# Altium footprint library Components - 10.12.25 - 15.07.PcbLib: 4 footprints
Each footprint in its own frame and in the unit in brackets; x right, y up, seen from the top. Pads: shape width x height; smd on the part's side, far side on the other; paste and mask are expansions set on the pad; w line width, h text height; cw(c..) or ccw(c..) is an arc to the next point about the centre after c.
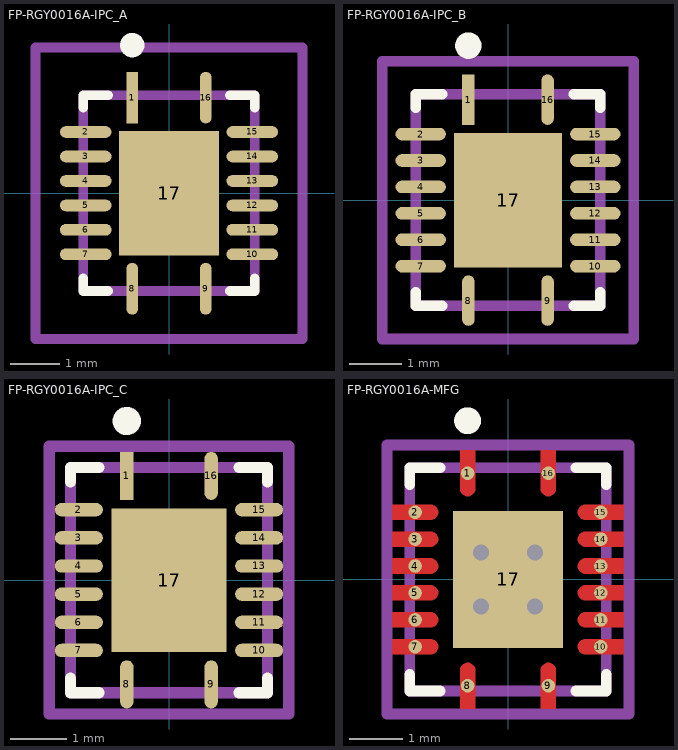
[diagram p0: the footprints below, top view; thin cyan lines are the x and y axes]

## FP-RGY0016A-IPC_A [mm]
pads (17):
  rect 0.239x1.054 smd paste+0 mask+0: 1(-0.75,1.952)
  rrect100% 1.054x0.239 smd paste+0 mask+0: 2(-1.702,1.25) 3(-1.702,0.75) 4(-1.702,0.25) 5(-1.702,-0.25) 6(-1.702,-0.75) 7(-1.702,-1.25) 10(1.702,-1.25) 11(1.702,-0.75) 12(1.702,-0.25) 13(1.702,0.25) 14(1.702,0.75) 15(1.702,1.25)
  rrect100% 0.239x1.054 smd paste+0 mask+0: 8(-0.75,-1.952) 9(0.75,-1.952) 16(0.75,1.952)
  rect 2.05x2.55 smd paste-1000 mask+0: 17(0,0)
Top Overlay:
  circle w0.25: c-0.75,3.025 r0.125
  lines w0.2: -1.75,-1.745 -1.75,-2 -1.245,-2 ; -1.75,1.745 -1.75,2 -1.245,2 ; 1.245,-2 1.75,-2 1.75,-1.745 ; 1.245,2 1.75,2 1.75,1.745
Top Paste:
  rectangle: -0.609,-0.859 0.609,0.859
Top Assembly:
  lines w0.2: -2.729,-2.979 -2.729,2.979 2.729,2.979 2.729,-2.979 -2.729,-2.979
  text ".Designator" at 0,0.188 h1
Top 3D Body:
  lines w0.2: -1.75,-2 -1.75,2 1.75,2 1.75,-2 -1.75,-2
Top Courtyard:
  lines w0.2: -2.729,-2.979 -2.729,2.979 2.729,2.979 2.729,-2.979 -2.729,-2.979
Top Component Center:
  lines w0.1: -0.5,0 0.5,0 ; 0,-0.5 0,0.5
3D body "IC_Texas_Instruments_SN74AVC4T774RGYR_eec.STEP": height 0.25, standoff 0, extent -2.729,-2.979 2.729,2.979

## FP-RGY0016A-IPC_B [mm]
pads (17):
  rect 0.239x0.954 smd paste+0 mask+0: 1(-0.75,1.902)
  rrect100% 0.954x0.239 smd paste+0 mask+0: 2(-1.652,1.25) 3(-1.652,0.75) 4(-1.652,0.25) 5(-1.652,-0.25) 6(-1.652,-0.75) 7(-1.652,-1.25) 10(1.652,-1.25) 11(1.652,-0.75) 12(1.652,-0.25) 13(1.652,0.25) 14(1.652,0.75) 15(1.652,1.25)
  rrect100% 0.239x0.954 smd paste+0 mask+0: 8(-0.75,-1.902) 9(0.75,-1.902) 16(0.75,1.902)
  rect 2.05x2.55 smd paste-1000 mask+0: 17(0,0)
Top Overlay:
  circle w0.25: c-0.75,2.925 r0.125
  lines w0.2: -1.75,-1.745 -1.75,-2 -1.245,-2 ; -1.75,1.745 -1.75,2 -1.245,2 ; 1.245,-2 1.75,-2 1.75,-1.745 ; 1.245,2 1.75,2 1.75,1.745
Top Paste:
  rectangle: -0.609,-0.859 0.609,0.859
Top Assembly:
  lines w0.2: -2.379,-2.629 2.379,-2.629 2.379,2.629 -2.379,2.629 -2.379,-2.629
  text ".Designator" at 0,0.188 h1
Top 3D Body:
  lines w0.2: -1.75,-2 1.75,-2 1.75,2 -1.75,2 -1.75,-2
Top Courtyard:
  lines w0.2: -2.379,-2.629 2.379,-2.629 2.379,2.629 -2.379,2.629 -2.379,-2.629
Top Component Center:
  lines w0.1: -0.5,0 0.5,0 ; 0,-0.5 0,0.5
3D body "IC_Texas_Instruments_SN74AVC4T774RGYR_eec.STEP": height 0.25, standoff 0, extent -2.379,-2.629 2.379,2.629

## FP-RGY0016A-IPC_C [mm]
pads (17):
  rect 0.239x0.854 smd paste+0 mask+0: 1(-0.75,1.852)
  rrect100% 0.854x0.239 smd paste+0 mask+0: 2(-1.602,1.25) 3(-1.602,0.75) 4(-1.602,0.25) 5(-1.602,-0.25) 6(-1.602,-0.75) 7(-1.602,-1.25) 10(1.602,-1.25) 11(1.602,-0.75) 12(1.602,-0.25) 13(1.602,0.25) 14(1.602,0.75) 15(1.602,1.25)
  rrect100% 0.239x0.854 smd paste+0 mask+0: 8(-0.75,-1.852) 9(0.75,-1.852) 16(0.75,1.852)
  rect 2.05x2.55 smd paste-1000 mask+0: 17(0,0)
Top Overlay:
  circle w0.25: c-0.75,2.825 r0.125
  lines w0.2: -1.75,-1.745 -1.75,-2 -1.245,-2 ; -1.75,1.745 -1.75,2 -1.245,2 ; 1.245,-2 1.75,-2 1.75,-1.745 ; 1.245,2 1.75,2 1.75,1.745
Top Paste:
  rectangle: -0.609,-0.859 0.609,0.859
Top Assembly:
  lines w0.2: -2.129,-2.379 2.129,-2.379 2.129,2.379 -2.129,2.379 -2.129,-2.379
  text ".Designator" at 0,0.188 h1
Top 3D Body:
  lines w0.2: -1.75,-2 1.75,-2 1.75,2 -1.75,2 -1.75,-2
Top Courtyard:
  lines w0.2: -2.129,-2.379 2.129,-2.379 2.129,2.379 -2.129,2.379 -2.129,-2.379
Top Component Center:
  lines w0.1: -0.5,0 0.5,0 ; 0,-0.5 0,0.5
3D body "IC_Texas_Instruments_SN74AVC4T774RGYR_eec.STEP": height 0.25, standoff 0, extent -2.129,-2.379 2.129,2.379

## FP-RGY0016A-MFG [mm]
pads (17):
  round 0.252 smd paste-1000 mask+0: 1(-0.75,1.975) 2(-1.725,1.25) 3(-1.725,0.75) 4(-1.725,0.25) 5(-1.725,-0.25) 6(-1.725,-0.75) 7(-1.725,-1.25) 8(-0.75,-1.975) 9(0.75,-1.975) 10(1.725,-1.25) 11(1.725,-0.75) 12(1.725,-0.25) 13(1.725,0.25) 14(1.725,0.75) 15(1.725,1.25) 16(0.75,1.975)
  rect 2.05x2.55 smd paste-1000 mask+0: 17(0,0)
via 0.5,0.5 diameter 0.6 hole 0.3
via 0.5,-0.5 diameter 0.6 hole 0.3
via -0.5,0.5 diameter 0.6 hole 0.3
via -0.5,-0.5 diameter 0.6 hole 0.3
Top Layer:
  region: -0.61,2.4 -0.61,1.69 -0.61,1.662 -0.631,1.611 -0.671,1.571 -0.722,1.55 -0.75,1.55 -0.778,1.55 -0.829,1.571 -0.869,1.611 -0.89,1.662 -0.89,1.69 -0.89,2.4
  region: -2.15,1.39 -1.44,1.39 -1.412,1.39 -1.361,1.369 -1.321,1.329 -1.3,1.278 -1.3,1.25 -1.3,1.222 -1.321,1.171 -1.361,1.131 -1.412,1.11 -1.44,1.11 -2.15,1.11
  region: -2.15,0.89 -1.44,0.89 -1.412,0.89 -1.361,0.869 -1.321,0.829 -1.3,0.778 -1.3,0.75 -1.3,0.722 -1.321,0.671 -1.361,0.631 -1.412,0.61 -1.44,0.61 -2.15,0.61
  region: -2.15,0.39 -1.44,0.39 -1.412,0.39 -1.361,0.369 -1.321,0.329 -1.3,0.278 -1.3,0.25 -1.3,0.222 -1.321,0.171 -1.361,0.131 -1.412,0.11 -1.44,0.11 -2.15,0.11
  region: -2.15,-0.11 -1.44,-0.11 -1.412,-0.11 -1.361,-0.131 -1.321,-0.171 -1.3,-0.222 -1.3,-0.25 -1.3,-0.278 -1.321,-0.329 -1.361,-0.369 -1.412,-0.39 -1.44,-0.39 -2.15,-0.39
  region: -2.15,-0.61 -1.44,-0.61 -1.412,-0.61 -1.361,-0.631 -1.321,-0.671 -1.3,-0.722 -1.3,-0.75 -1.3,-0.778 -1.321,-0.829 -1.361,-0.869 -1.412,-0.89 -1.44,-0.89 -2.15,-0.89
  region: -2.15,-1.11 -1.44,-1.11 -1.412,-1.11 -1.361,-1.131 -1.321,-1.171 -1.3,-1.222 -1.3,-1.25 -1.3,-1.278 -1.321,-1.329 -1.361,-1.369 -1.412,-1.39 -1.44,-1.39 -2.15,-1.39
  region: 2.15,-1.39 1.44,-1.39 1.412,-1.39 1.361,-1.369 1.321,-1.329 1.3,-1.278 1.3,-1.25 1.3,-1.222 1.321,-1.171 1.361,-1.131 1.412,-1.11 1.44,-1.11 2.15,-1.11
  region: 2.15,-0.89 1.44,-0.89 1.412,-0.89 1.361,-0.869 1.321,-0.829 1.3,-0.778 1.3,-0.75 1.3,-0.722 1.321,-0.671 1.361,-0.631 1.412,-0.61 1.44,-0.61 2.15,-0.61
  region: 2.15,-0.39 1.44,-0.39 1.412,-0.39 1.361,-0.369 1.321,-0.329 1.3,-0.278 1.3,-0.25 1.3,-0.222 1.321,-0.171 1.361,-0.131 1.412,-0.11 1.44,-0.11 2.15,-0.11
  region: 2.15,0.11 1.44,0.11 1.412,0.11 1.361,0.131 1.321,0.171 1.3,0.222 1.3,0.25 1.3,0.278 1.321,0.329 1.361,0.369 1.412,0.39 1.44,0.39 2.15,0.39
  region: 2.15,0.61 1.44,0.61 1.412,0.61 1.361,0.631 1.321,0.671 1.3,0.722 1.3,0.75 1.3,0.778 1.321,0.829 1.361,0.869 1.412,0.89 1.44,0.89 2.15,0.89
  region: 2.15,1.11 1.44,1.11 1.412,1.11 1.361,1.131 1.321,1.171 1.3,1.222 1.3,1.25 1.3,1.278 1.321,1.329 1.361,1.369 1.412,1.39 1.44,1.39 2.15,1.39
  region: -0.89,-2.4 -0.89,-1.69 -0.89,-1.662 -0.869,-1.611 -0.829,-1.571 -0.778,-1.55 -0.75,-1.55 -0.722,-1.55 -0.671,-1.571 -0.631,-1.611 -0.61,-1.662 -0.61,-1.69 -0.61,-2.4
  region: 0.61,-2.4 0.61,-1.69 0.61,-1.662 0.631,-1.611 0.671,-1.571 0.722,-1.55 0.75,-1.55 0.778,-1.55 0.829,-1.571 0.869,-1.611 0.89,-1.662 0.89,-1.69 0.89,-2.4
  region: 0.89,2.4 0.89,1.69 0.89,1.662 0.869,1.611 0.829,1.571 0.778,1.55 0.75,1.55 0.722,1.55 0.671,1.571 0.631,1.611 0.61,1.662 0.61,1.69 0.61,2.4
Top Overlay:
  circle w0.25: c-0.75,2.95 r0.125
  lines w0.2: -1.825,-1.765 -1.825,-2.075 -1.265,-2.075 ; -1.825,1.765 -1.825,2.075 -1.265,2.075 ; 1.265,-2.075 1.825,-2.075 1.825,-1.765 ; 1.265,2.075 1.825,2.075 1.825,1.765
Top Paste:
  drawing of 20 lines, arcs and shapes, not listed
Top Assembly:
  lines w0.2: -2.25,-2.5 2.25,-2.5 2.25,2.5 -2.25,2.5 -2.25,-2.5
  text ".Designator" at 0,-0.001 h1
Top 3D Body:
  lines w0.2: -1.825,-2.075 1.825,-2.075 1.825,2.075 -1.825,2.075 -1.825,-2.075
Top Courtyard:
  lines w0.2: -2.25,-2.5 2.25,-2.5 2.25,2.5 -2.25,2.5 -2.25,-2.5
Top Component Center:
  lines w0.1: -0.675,0 0.675,0 ; 0,-0.675 0,0.675
3D body "IC_Texas_Instruments_SN74AVC4T774RGYR_eec.STEP": height 0.25, standoff 0, extent -2.25,-2.5 2.25,2.5